# Altium schematic symbol library DiodeBridge.SchLib: 1 symbol
Pins are listed as number, name and electrical type; pins without a type are passive.

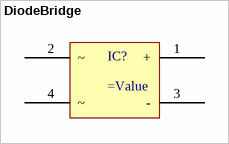
[diagram p0: symbol DiodeBridge]

## DiodeBridge
designator IC?
=Description
pins: 1 +, 2 ~, 3 -, 4 ~